# EAGLE library part OP-DUAL-SHUTDOWN (library LinnesLab-AnalogIC)
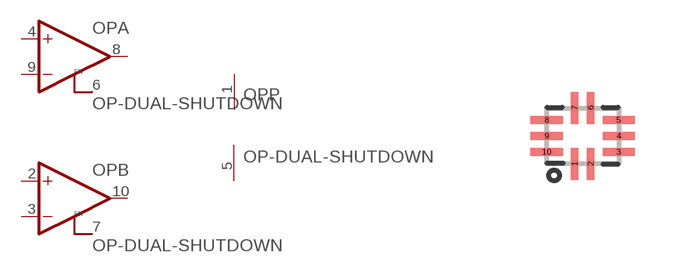
[diagram p10: symbol with the pads of 10-UTQFN(1.4X1.8); footprint 10-UTQFN(1.4X1.8)]

Designator prefix OP; gates A=OPAMP-S B=OPAMP-S P=PWR+-

## OP-DUAL-SHUTDOWN-UTQFN  [10-UTQFN(1.4X1.8)]
1  P:V+  pwr
2  B:+IN  in
3  B:-IN  in
4  A:+IN  in
5  P:V-  pwr
6  A:ENABLE
7  B:ENABLE
8  A:OUT  out
9  A:-IN  in
10  B:OUT  out

## Footprint 10-UTQFN(1.4X1.8) (pad centres in mm)
smd 0.2 x 0.8: 1 -0.2,-0.7; 2 0.2,-0.7; 6 0.2,0.7; 7 -0.2,0.7
smd 0.8 x 0.2: 3 0.9,-0.4; 4 0.9,0; 5 0.9,0.4; 8 -0.9,0.4; 9 -0.9,0; 10 -0.9,-0.4